# Altium schematic symbol library Schlib.SchLib: 8 symbols
Pins are listed as number, name and electrical type; pins without a type are passive.

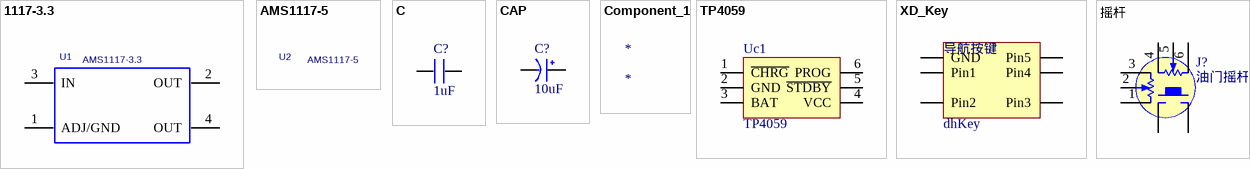
[diagram p0: symbols 1117-3.3 to 摇杆]

## 1117-3.3
designator U1, comment AMS1117-3.3
SOT-223; Manufacturer #1: SPX; Geometry.Height: 62.99mil; Manufacturer #1 PN: 1117-3.3
footprint LC-SOT-223
pins: 1 ADJ/GND, 2 OUT, 3 IN, 4 OUT

## AMS1117-5
designator U2
SOT-223; Manufacturer #1: SPX; Geometry.Height: 62.99mil; Manufacturer #1 PN: 1117-3.3
footprint LC-SOT-223

## C
designator C?, comment 1uF
footprint 0805
footprint CC5.08 (CAP0.1)
footprint CC4.572 (222/332)
footprint 1206
footprint 1210
footprint CC6.096
footprint CC7.62
footprint C 5.08    7.5mm x4.5mm
footprint C  P5-7-10  W=4mm (P5/P7/P10      W=4mm)
footprint C  P5-7-10  W=9mm (P5/P7/P10      W=9mm)
footprint 0402
footprint 1218
footprint 2010
footprint 2512
footprint LC-0603_R
pins: 1, 2

## CAP
designator C?, comment 10uF
footprint C1206
footprint CAP2.54 (RB.1/.2)
footprint CAP7.62 (25V 2200uF)
footprint CAP10.16 (50V10000uF)
footprint CAP10.9 (50V 2200uF)
footprint CAP3.0 (100V 10uF)
footprint CAP8.0 (25V/4700uF)
footprint CAP8.0_2 (50V/4700uF)
footprint C7040 (7MM*4MM)
footprint CC1010 (SMD;W:10mm;L:10mm;)
footprint CC6.56.5 (SMD;W:6.5mm;L:6.5mm;)
footprint CC88 (SMD;W:8mm;L:8mm;)
footprint CAP2.54M (6mm*8mm)
footprint CAP12.5 (12.5mm*20mm,pin:5.08mm)
footprint C3528
footprint CC5.35.3
footprint CAP7.62  侧式 (50V 4700uF)
footprint CAP7.62  侧式 - A (50V 4700uF)
footprint C0805 钽电容
footprint CAP5.08 R=13 侧式 (RB 5.08  13x20)
footprint CAP5.08 R=13 侧式-A (RB 5.08  13x20)
footprint CAP5.08 R=10 (RB 5.08/10)
footprint CAP5.08 R=13 (RB 5.08/13)
pins: 1 VCC, 2 GND

## Component_1
designator *

## TP4059
designator Uc1
footprint SOT23-6S
pins: 1 ~{CHRG}, 2 GND, 3 BAT, 4 VCC, 5 ~{STDBY}, 6 PROG

## XD_Key
designator 导航按键, comment dhKey
xiangdaoKey
footprint daoxiangbutton (导向按键)
pins: 1 GND, 2 Pin1, 3 Pin2, 4 Pin3, 5 Pin4, 6 Pin5

## 摇杆
designator J?, comment 油门摇杆
摇杆
footprint Model Name (Footprint not found)
footprint 摇杆A
pins: 1, 2, 3, 4, 5, 6, J1, J2